# Altium schematic symbol library 1-1123723-2.SchLib: 1 symbol
Pins are listed as number, name and electrical type; pins without a type are passive.

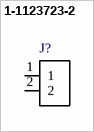
[diagram p0: symbol 1-1123723-2]

## 1-1123723-2
designator J?  (value not drawn)
/ 3.96 EP HDR ASSY 2P_NATURAL_ /; MF: TE Connectivity; Centerline_Pitch: 3.96 mm[.156 in]; Number_of_Positions: 2; Product_Type: Header; Package: None; Availability: Unavailable; SnapEDA_Link: https://www.snapeda.com/parts/1-1123723-2/TE%20Connectivity%20AMP%20Connectors/view-part/231687/?ref=snap; MP: 1-1123723-2; Price: None; TE_purchase_URL: https://www.te.com/usa-en/product-1-1123723-2.html?te_bu=Cor&te_type=disp&te_campaign=seda_glo_cor-seda-global-disp-prtnr-fy19-seda-model-bom-cta_sma-317_1&elqCampaignId=32493; EU_RoHS_Compliance: Compliant; Value: *
footprint *TE_1-1123723-2
pins: 1, 2